# Altium schematic symbol library Bad-Fox.SchLib: 13 symbols
Pins are listed as number, name and electrical type; pins without a type are passive.

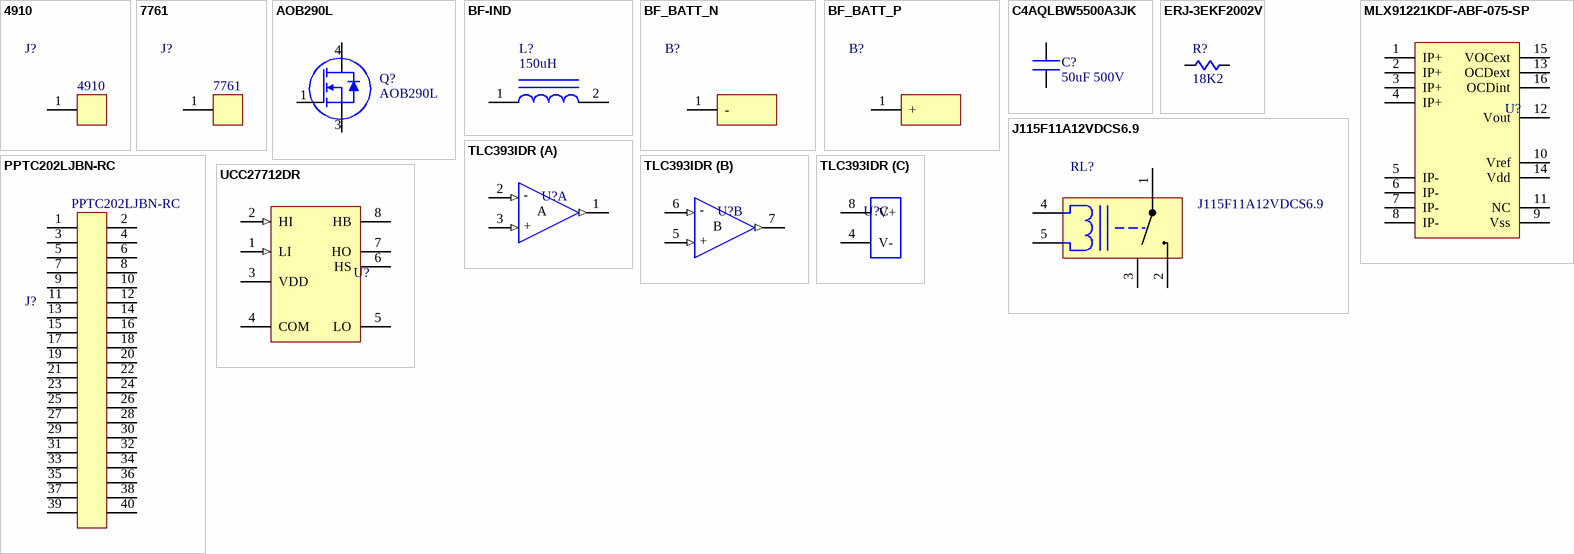
[diagram p0: symbols 4910 to UCC27712DR]

## 4910
designator J?, comment value 4910  (hidden comment: Conn QC TAB 0.250 RA TH)
Dist: Digi-Key; Dist P/N: 36-4910-ND; Mfg: Keystone Electronics; Mfgr P/N: 4910; Price: 2.75; HelpURL: https://www.keyelco.com/userAssets/file/M65p59.pdf
footprint 4910 (Quick connect spade, RA TH)
pins: 1

## 7761
designator J?, comment value 7761  (hidden comment: Conn Screw M3 RA TH)
Dist: Digi-Key; Dist P/N: 36-7761-ND; Mfg: Keystone Electronics; Mfgr P/N: 7761; Price: 0.77; HelpURL: https://www.keyelco.com/userAssets/file/M65p69.pdf
footprint 7761 (Keystone Electronics M3 Screw Terminal RA)
pins: 1

## AOB290L
designator Q?, comment value AOB290L  (hidden comment: Tran N-MOSFET 100V 140A 3.2mOhm D2-PAK)
Dist: Digi-Key; Dist P/N: 785-1329-1-ND; Mfg: Alpha & Omega Semiconductor; Mfgr P/N: AOB290L; Price: 3.68; Datasheet: http://www.aosmd.com/res/data_sheets/AOB290L.pdf
footprint TO263 (2-lead D2PAK)
pins: 1 Gate, 3 Source, 4 Drain

## BF-IND
designator L?, comment value 150uH  (hidden comment: Inductor for inverter charger (placeholder))
Dist: -; Dist P/N: -; Mfg: -; Mfgr P/N: -; Price: -; HelpURL: -
footprint BF_IND
pins: 1, 2

## BF_BATT_N
designator B?, comment Negative side of battery  (value not drawn)  (no BOM)
Dist: Digi-Key
footprint BF_BATT_N
pins: 1 -

## BF_BATT_P
designator B?, comment Positive side of battery  (value not drawn)  (no BOM)
Dist: Digi-Key
footprint BF_BATT_P
pins: 1 +

## C4AQLBW5500A3JK
designator C?, comment value 50uF 500V  (hidden comment: Cap Film PP 50u 500V RADIAL)
Dist: Digi-Key; Dist P/N: 399-17001-ND; Mfg: Kemet; Mfgr P/N: C4AQLBW5500A3JK; Price: 10.35; HelpURL: https://katalog.we-online.de/pbs/datasheet/885012206089.pdf
footprint C4AQ (Kemet C4AQ Series film capacitor)
pins: 1, 2

## ERJ-3EKF2002V
designator R?, comment value 18K2  (hidden comment: Res 18.2K 1/10W 1% 0603)
Dist: Digi-Key; Dist P/N: P18.2KHCT-ND; Mfg: Panasonic; Mfgr P/N: ERJ-3EKF1822V; Price: 0.05
footprint RESC1608N-0603 (Chip Resistor, Body 1.6x0.8mm, IPC Medium Density)
footprint RESC1608M-0603 (Chip Resistor, Body 1.6x0.8mm, IPC Low Density)
pins: 1, 2

## J115F11A12VDCS6.9
designator RL?, comment value J115F11A12VDCS6.9  (hidden comment: Relay SPST 277VAC 40A 12Vcoil)
Dist: Digi-Key; Dist P/N: 2449-J115F11A12VDCS6.9-ND; Mfg: CIT Relay and Switch; Mfgr P/N: J115F11A12VDCS6.9; Price: 2.02; HelpURL: https://www.citrelay.com/Catalog%20Pages/RelayCatalog/J115F1.pdf
footprint T9A (T9A Relay)
pins: 1, 2, 3, 4, 5

## MLX91221KDF-ABF-075-SP
designator U?, comment IC Sensor Current Isolated 75A  (value not drawn)
Dist: Digi-Key; Dist P/N: 413-MLX91221KDF-ABF-075-SP-ND; Mfg: Melexis; Mfgr P/N: MLX91221KDF-ABF-075-SP; Price: 4.45; Datasheet: https://www.melexis.com/-/media/files/documents/datasheets/mlx91221-datasheet-melexis.pdf
footprint SOIC127P1030X264-16N (SOIC, 16-Leads, Body 10.29x7.50mm, Pitch 1.27mm, IPC Medium Density)
pins: 1 IP+, 2 IP+, 3 IP+, 4 IP+, 5 IP-, 6 IP-, 7 IP-, 8 IP-, 9 Vss, 10 Vref, 11 NC, 12 Vout, 13 OCDext, 14 Vdd, 15 VOCext, 16 OCDint

## PPTC202LJBN-RC
designator J?, comment value PPTC202LJBN-RC  (hidden comment: Conn Recept 40Pos 0.1" dual row TH RA)
Dist: Digi-Key; Dist P/N: S5534-ND; Mfg: Sullins Connector Solutions; Mfgr P/N: PPTC202LJBN-RC; Price: 2.75; HelpURL: https://drawings-pdf.s3.amazonaws.com/10494.pdf
footprint PPTC202LJBN-RC
pins: 1, 2, 3, 4, 5, 6, 7, 8, 9, 10, 11, 12, 13, 14, 15, 16, 17, 18, 19, 20, 21, 22, 23, 24, 25, 26, 27, 28, 29, 30, 31, 32, 33, 34, 35, 36, 37, 38, 39, 40

## TLC393IDR
designator U?, comment IC Comparator Open Drain Dual 8-SOIC  (value not drawn)
Dist: Digi-Key; Dist P/N: 296-1330-1-ND; Mfg: Texas Instruments; Mfgr P/N: TLC393IDR; Datasheet: http://www.ti.com/general/docs/suppproductinfo.tsp?distId=10&gotoUrl=http%3A%2F%2Fwww.ti.com%2Flit%2Fgpn%2Ftlc393; Price: 1.97
footprint SOIC127P600-8N (SOIC, 8-Leads, Body 4.9x3.9mm, Pitch 1.27mm, IPC Medium Density)
part A pins: 1 Output A (out) "A Output", 2 -A (in) "Inverting A Input", 3 +A (in) "Non-Inverting A input"
part B pins: 5 +B (in) "Non-Inverting B Input", 6 -B (in) "Inverting B Input", 7 Output B (out) "B output"
part C pins: 4 V- (power) "Powers -", 8 V+ (power) "Powers +"
part A text: -; A; +
part B text: -; B; +

## UCC27712DR
designator U?, comment IC Gate Driver Half Bridge 600V 1.8/2.8A 8-SOIC  (value not drawn)
Dist: Digi-Key; Dist P/N: 296-47647-1-ND; Mfg: TI; Mfgr P/N: UCC27712DR; Price: 1.87; Datasheet: http://www.ti.com/general/docs/suppproductinfo.tsp?distId=10&gotoUrl=http%3A%2F%2Fwww.ti.com%2Flit%2Fgpn%2Fucc27712
footprint SOIC127P600-8N (SOIC, 8-Leads, Body 4.9x3.9mm, Pitch 1.27mm, IPC Medium Density)
pins: 1 LI (in), 2 HI (in), 3 VDD (power), 4 COM (power), 5 LO, 6 HS, 7 HO, 8 HB